# Altium integrated library NSC MiscPower.IntLib: 1417 symbols (part 13 of 39)
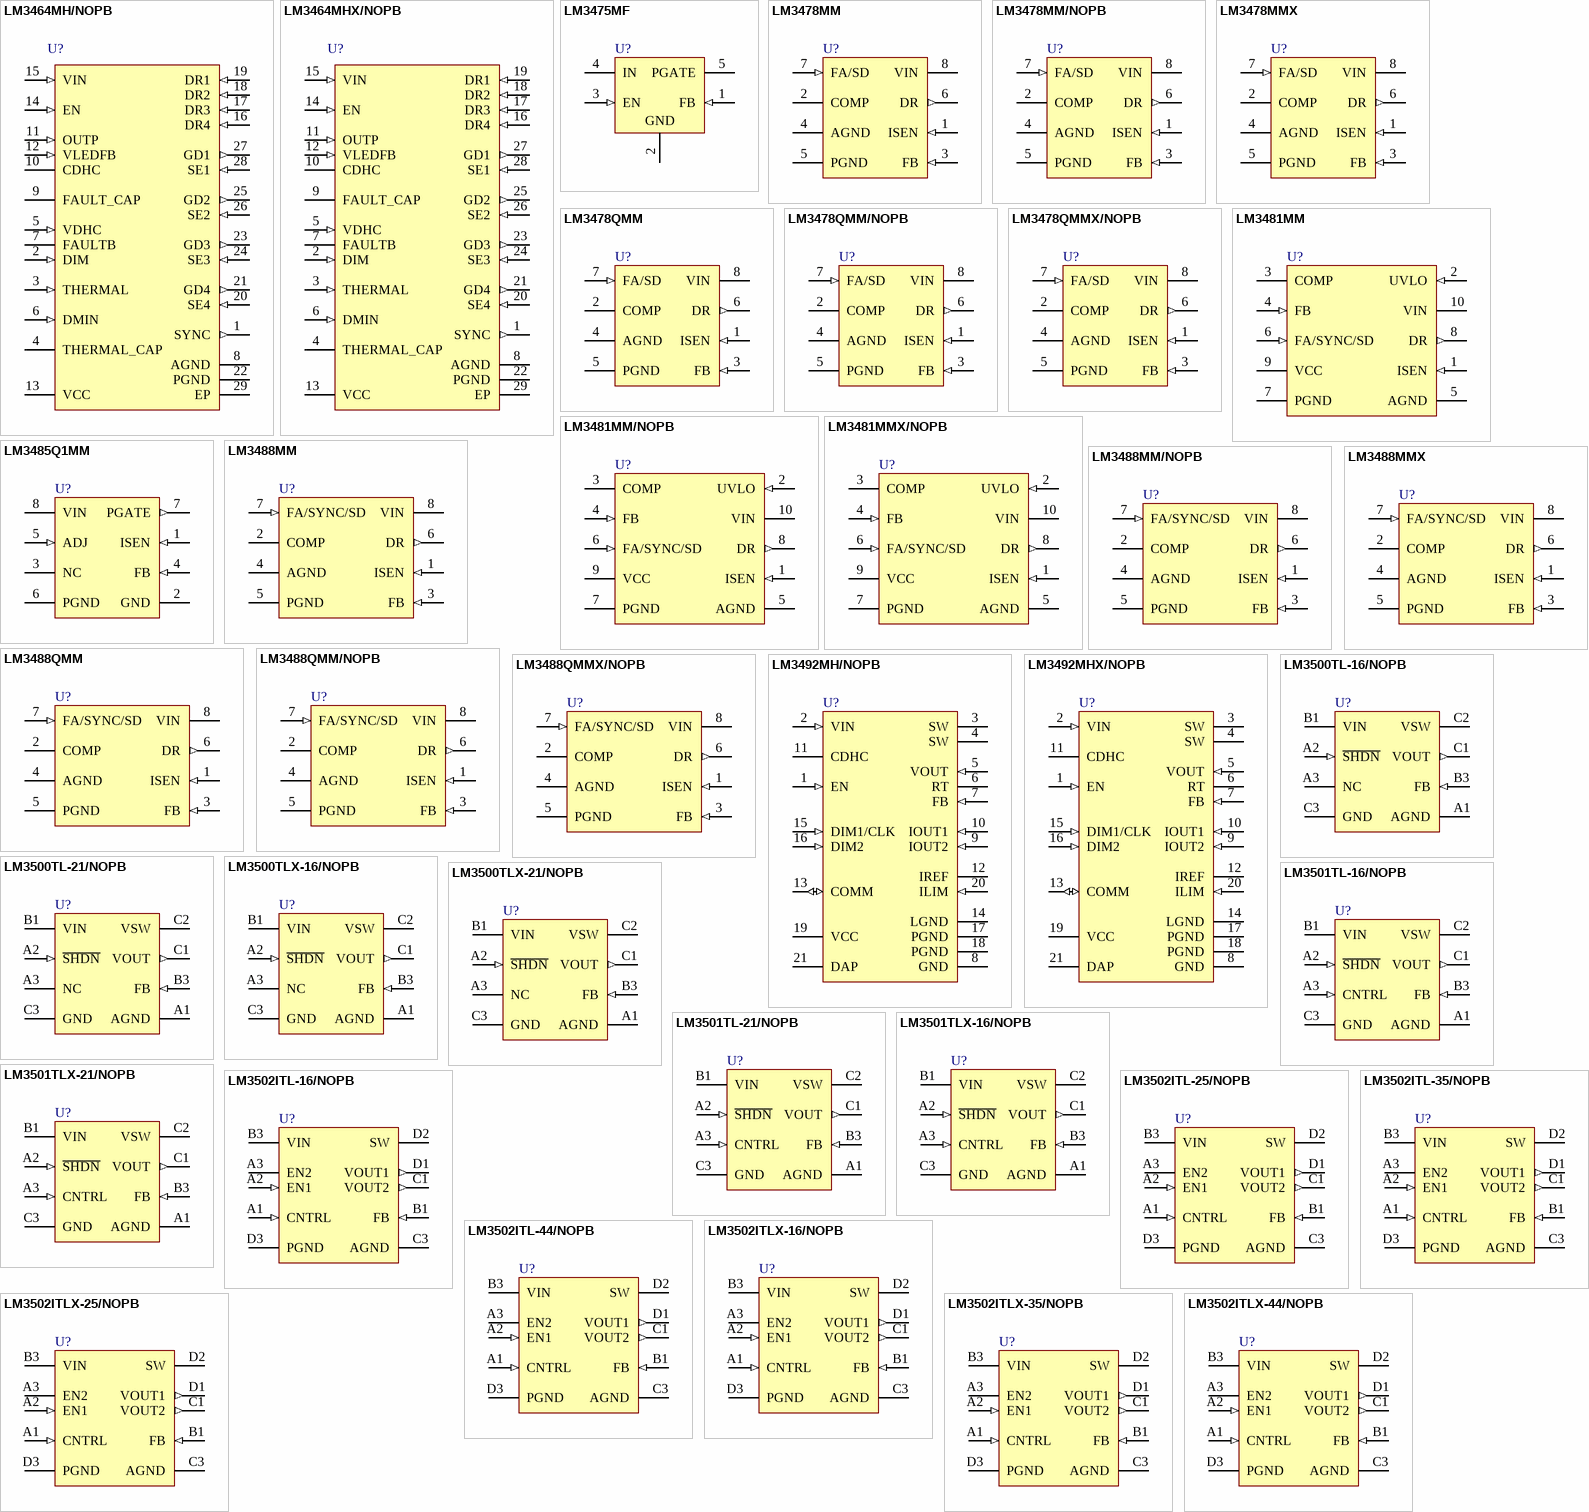
[diagram p63: symbols LM3464MH/NOPB to LM3502ITLX-44/NOPB]

## LM3501TL-16/NOPB
designator U?
Synchronous Step-up DC/DC Converter for White LED Applications, 8-pin Micro SMD, Pb-Free; PartNumber: LM3501TL-16/NOPB; Manufacturer: National Semiconductor; PackageTopMarking: XVS*I 19; PowerWise: N; CompType: MiscPower; Published: 1-Mar-2010; DatasheetVersion: May-2005; PackageVersion: revC, Jan-2004; PackageReference: TLA08SSA; Publisher: Altium Limited; PackageDescription: Thin Micro SMD, 8 Bump (Large), 0.5mm Pitch; Supplier 1: Digi-Key; Supplier Part Number 1: LM3501TL-16TR-ND; Supplier 2: Digi-Key; Supplier Part Number 2: LM3501TL-16CT-ND; Supplier 3: Digi-Key; Supplier Part Number 3: LM3501TL-16DKR-ND; RoHS: Y; PinCount: 8; Code_JEDEC: MO-211-DD; ComponentLink1Description: LM3501 Datasheet; ComponentLink1URL: http://www.national.com/ds/LM/LM3501.pdf; ComponentLink2Description: LM3501 Web Page; ComponentLink2URL: http://www.national.com/pf/LM/LM3501.html; ComponentLink3Description: TLA08SSA Package Page; ComponentLink3URL: http://www.national.com/packaging/folders/tla08ssa.html
footprint TLA08SSA (Micro SMD, 8-Leads, Body 1.92x1.92mm, Pitch 0.5mm, NSC Recommended)
pins: A1 AGND (power), A2 ~{SHDN} (in), A3 CNTRL (in), B1 VIN (power), B3 FB (in), C1 VOUT (out), C2 VSW, C3 GND (power)

## LM3501TL-21/NOPB
designator U?
Synchronous Step-up DC/DC Converter for White LED Applications, 8-pin Micro SMD, Pb-Free; PartNumber: LM3501TL-21/NOPB; Manufacturer: National Semiconductor; PackageTopMarking: XVS*I 30; PowerWise: N; CompType: MiscPower; Published: 1-Mar-2010; DatasheetVersion: May-2005; PackageVersion: revC, Jan-2004; PackageReference: TLA08SSA; Publisher: Altium Limited; PackageDescription: Thin Micro SMD, 8 Bump (Large), 0.5mm Pitch; Supplier 1: Digi-Key; Supplier Part Number 1: LM3501TL-21TR-ND; Supplier 2: Digi-Key; Supplier Part Number 2: LM3501TL-21CT-ND; Supplier 3: Digi-Key; Supplier Part Number 3: LM3501TL-21DKR-ND; RoHS: Y; PinCount: 8; Code_JEDEC: MO-211-DD; ComponentLink1Description: LM3501 Datasheet; ComponentLink1URL: http://www.national.com/ds/LM/LM3501.pdf; ComponentLink2Description: LM3501 Web Page; ComponentLink2URL: http://www.national.com/pf/LM/LM3501.html; ComponentLink3Description: TLA08SSA Package Page; ComponentLink3URL: http://www.national.com/packaging/folders/tla08ssa.html
footprint TLA08SSA (Micro SMD, 8-Leads, Body 1.92x1.92mm, Pitch 0.5mm, NSC Recommended)
pins: A1 AGND (power), A2 ~{SHDN} (in), A3 CNTRL (in), B1 VIN (power), B3 FB (in), C1 VOUT (out), C2 VSW, C3 GND (power)

## LM3501TLX-16/NOPB
designator U?
Synchronous Step-up DC/DC Converter for White LED Applications, 8-pin Micro SMD, Pb-Free; PartNumber: LM3501TLX-16/NOPB; Manufacturer: National Semiconductor; PackageTopMarking: XVS*I 19; PowerWise: N; CompType: MiscPower; Published: 1-Mar-2010; DatasheetVersion: May-2005; PackageVersion: revC, Jan-2004; PackageReference: TLA08SSA; Publisher: Altium Limited; PackageDescription: Thin Micro SMD, 8 Bump (Large), 0.5mm Pitch; Supplier 1: Digi-Key; Supplier Part Number 1: LM3501TLX-16-ND; RoHS: Y; PinCount: 8; Code_JEDEC: MO-211-DD; ComponentLink1Description: LM3501 Datasheet; ComponentLink1URL: http://www.national.com/ds/LM/LM3501.pdf; ComponentLink2Description: LM3501 Web Page; ComponentLink2URL: http://www.national.com/pf/LM/LM3501.html; ComponentLink3Description: TLA08SSA Package Page; ComponentLink3URL: http://www.national.com/packaging/folders/tla08ssa.html
footprint TLA08SSA (Micro SMD, 8-Leads, Body 1.92x1.92mm, Pitch 0.5mm, NSC Recommended)
pins: A1 AGND (power), A2 ~{SHDN} (in), A3 CNTRL (in), B1 VIN (power), B3 FB (in), C1 VOUT (out), C2 VSW, C3 GND (power)

## LM3501TLX-21/NOPB
designator U?
Synchronous Step-up DC/DC Converter for White LED Applications, 8-pin Micro SMD, Pb-Free; PartNumber: LM3501TLX-21/NOPB; Manufacturer: National Semiconductor; PackageTopMarking: XVS*I 30; PowerWise: N; CompType: MiscPower; Published: 1-Mar-2010; DatasheetVersion: May-2005; PackageVersion: revC, Jan-2004; PackageReference: TLA08SSA; Publisher: Altium Limited; PackageDescription: Thin Micro SMD, 8 Bump (Large), 0.5mm Pitch; Supplier 1: Digi-Key; Supplier Part Number 1: LM3501TLX-21-ND; RoHS: Y; PinCount: 8; Code_JEDEC: MO-211-DD; ComponentLink1Description: LM3501 Datasheet; ComponentLink1URL: http://www.national.com/ds/LM/LM3501.pdf; ComponentLink2Description: LM3501 Web Page; ComponentLink2URL: http://www.national.com/pf/LM/LM3501.html; ComponentLink3Description: TLA08SSA Package Page; ComponentLink3URL: http://www.national.com/packaging/folders/tla08ssa.html
footprint TLA08SSA (Micro SMD, 8-Leads, Body 1.92x1.92mm, Pitch 0.5mm, NSC Recommended)
pins: A1 AGND (power), A2 ~{SHDN} (in), A3 CNTRL (in), B1 VIN (power), B3 FB (in), C1 VOUT (out), C2 VSW, C3 GND (power)

## LM3502ITL-16/NOPB
designator U?
Step-Up Converter for White LED Applications, 10-pin Micro SMD, Pb-Free; PartNumber: LM3502ITL-16/NOPB; Manufacturer: National Semiconductor; PackageTopMarking: XYTT*I SANB; PowerWise: Y; CompType: MiscPower; Published: 1-Mar-2010; DatasheetVersion: Aug-2006; PackageVersion: revD, Mar-2004; PackageReference: TLP10RDA; Publisher: Altium Limited; PackageDescription: Thin Micro SMD, 10 Bump (Large), Periperal, 0.5mm Pitch; Supplier 1: Digi-Key; Supplier Part Number 1: LM3502ITL-16TR-ND; Supplier 2: Digi-Key; Supplier Part Number 2: LM3502ITL-16CT-ND; Supplier 3: Digi-Key; Supplier Part Number 3: LM3502ITL-16DKR-ND; RoHS: Y; PinCount: 10; Code_JEDEC: MO-211-BD; ComponentLink1Description: LM3502 Datasheet; ComponentLink1URL: http://www.national.com/ds/LM/LM3502.pdf; ComponentLink2Description: LM3502 Web Page; ComponentLink2URL: http://www.national.com/pf/LM/LM3502.html; ComponentLink3Description: TLP10RDA Package Page; ComponentLink3URL: http://www.national.com/packaging/folders/tlp10rda.html
footprint TLP10RDA (Micro SMD, 10-Leads, Body 2.07x1.9mm, Pitch 0.5mm, NSC Recommended)
pins: A1 CNTRL (in), A2 EN1 (in), A3 EN2, B1 FB (in), B3 VIN (power), C1 VOUT2 (out), C3 AGND (power), D1 VOUT1 (out), D2 SW (power), D3 PGND (power)

## LM3502ITL-25/NOPB
designator U?
Step-Up Converter for White LED Applications, 10-pin Micro SMD, Pb-Free; PartNumber: LM3502ITL-25/NOPB; Manufacturer: National Semiconductor; PackageTopMarking: XYTT*I SAPB; PowerWise: Y; CompType: MiscPower; Published: 1-Mar-2010; DatasheetVersion: Aug-2006; PackageVersion: revD, Mar-2004; PackageReference: TLP10RDA; Publisher: Altium Limited; PackageDescription: Thin Micro SMD, 10 Bump (Large), Periperal, 0.5mm Pitch; Supplier 1: Digi-Key; Supplier Part Number 1: LM3502ITL-25TR-ND; Supplier 2: Digi-Key; Supplier Part Number 2: LM3502ITL-25CT-ND; Supplier 3: Digi-Key; Supplier Part Number 3: LM3502ITL-25DKR-ND; RoHS: Y; PinCount: 10; Code_JEDEC: MO-211-BD; ComponentLink1Description: LM3502 Datasheet; ComponentLink1URL: http://www.national.com/ds/LM/LM3502.pdf; ComponentLink2Description: LM3502 Web Page; ComponentLink2URL: http://www.national.com/pf/LM/LM3502.html; ComponentLink3Description: TLP10RDA Package Page; ComponentLink3URL: http://www.national.com/packaging/folders/tlp10rda.html
footprint TLP10RDA (Micro SMD, 10-Leads, Body 2.07x1.9mm, Pitch 0.5mm, NSC Recommended)
pins: A1 CNTRL (in), A2 EN1 (in), A3 EN2, B1 FB (in), B3 VIN (power), C1 VOUT2 (out), C3 AGND (power), D1 VOUT1 (out), D2 SW (power), D3 PGND (power)

## LM3502ITL-35/NOPB
designator U?
Step-Up Converter for White LED Applications, 10-pin Micro SMD, Pb-Free; PartNumber: LM3502ITL-35/NOPB; Manufacturer: National Semiconductor; PackageTopMarking: XYTT*I SARB; PowerWise: Y; CompType: MiscPower; Published: 1-Mar-2010; DatasheetVersion: Aug-2006; PackageVersion: revD, Mar-2004; PackageReference: TLP10RDA; Publisher: Altium Limited; PackageDescription: Thin Micro SMD, 10 Bump (Large), Periperal, 0.5mm Pitch; Supplier 1: Digi-Key; Supplier Part Number 1: LM3502ITL-35-ND; RoHS: Y; PinCount: 10; Code_JEDEC: MO-211-BD; ComponentLink1Description: LM3502 Datasheet; ComponentLink1URL: http://www.national.com/ds/LM/LM3502.pdf; ComponentLink2Description: LM3502 Web Page; ComponentLink2URL: http://www.national.com/pf/LM/LM3502.html; ComponentLink3Description: TLP10RDA Package Page; ComponentLink3URL: http://www.national.com/packaging/folders/tlp10rda.html
footprint TLP10RDA (Micro SMD, 10-Leads, Body 2.07x1.9mm, Pitch 0.5mm, NSC Recommended)
pins: A1 CNTRL (in), A2 EN1 (in), A3 EN2, B1 FB (in), B3 VIN (power), C1 VOUT2 (out), C3 AGND (power), D1 VOUT1 (out), D2 SW (power), D3 PGND (power)

## LM3502ITL-44/NOPB
designator U?
Step-Up Converter for White LED Applications, 10-pin Micro SMD, Pb-Free; PartNumber: LM3502ITL-44/NOPB; Manufacturer: National Semiconductor; PackageTopMarking: XYTT*I SDLB; PowerWise: Y; CompType: MiscPower; Published: 1-Mar-2010; DatasheetVersion: Aug-2006; PackageVersion: revD, Mar-2004; PackageReference: TLP10RDA; Publisher: Altium Limited; PackageDescription: Thin Micro SMD, 10 Bump (Large), Periperal, 0.5mm Pitch; Supplier 1: Digi-Key; Supplier Part Number 1: LM3502ITL-44TR-ND; Supplier 2: Digi-Key; Supplier Part Number 2: LM3502ITL-44CT-ND; Supplier 3: Digi-Key; Supplier Part Number 3: LM3502ITL-44DKR-ND; RoHS: Y; PinCount: 10; Code_JEDEC: MO-211-BD; ComponentLink1Description: LM3502 Datasheet; ComponentLink1URL: http://www.national.com/ds/LM/LM3502.pdf; ComponentLink2Description: LM3502 Web Page; ComponentLink2URL: http://www.national.com/pf/LM/LM3502.html; ComponentLink3Description: TLP10RDA Package Page; ComponentLink3URL: http://www.national.com/packaging/folders/tlp10rda.html
footprint TLP10RDA (Micro SMD, 10-Leads, Body 2.07x1.9mm, Pitch 0.5mm, NSC Recommended)
pins: A1 CNTRL (in), A2 EN1 (in), A3 EN2, B1 FB (in), B3 VIN (power), C1 VOUT2 (out), C3 AGND (power), D1 VOUT1 (out), D2 SW (power), D3 PGND (power)

## LM3502ITLX-16/NOPB
designator U?
Step-Up Converter for White LED Applications, 10-pin Micro SMD, Pb-Free; PartNumber: LM3502ITLX-16/NOPB; Manufacturer: National Semiconductor; PackageTopMarking: XYTT*I SANB; PowerWise: Y; CompType: MiscPower; Published: 1-Mar-2010; DatasheetVersion: Aug-2006; PackageVersion: revD, Mar-2004; PackageReference: TLP10RDA; Publisher: Altium Limited; PackageDescription: Thin Micro SMD, 10 Bump (Large), Periperal, 0.5mm Pitch; Supplier 1: Digi-Key; Supplier Part Number 1: LM3502ITLX-16-ND; RoHS: Y; PinCount: 10; Code_JEDEC: MO-211-BD; ComponentLink1Description: LM3502 Datasheet; ComponentLink1URL: http://www.national.com/ds/LM/LM3502.pdf; ComponentLink2Description: LM3502 Web Page; ComponentLink2URL: http://www.national.com/pf/LM/LM3502.html; ComponentLink3Description: TLP10RDA Package Page; ComponentLink3URL: http://www.national.com/packaging/folders/tlp10rda.html
footprint TLP10RDA (Micro SMD, 10-Leads, Body 2.07x1.9mm, Pitch 0.5mm, NSC Recommended)
pins: A1 CNTRL (in), A2 EN1 (in), A3 EN2, B1 FB (in), B3 VIN (power), C1 VOUT2 (out), C3 AGND (power), D1 VOUT1 (out), D2 SW (power), D3 PGND (power)

## LM3502ITLX-25/NOPB
designator U?
Step-Up Converter for White LED Applications, 10-pin Micro SMD, Pb-Free; PartNumber: LM3502ITLX-25/NOPB; Manufacturer: National Semiconductor; PackageTopMarking: XYTT*I SAPB; PowerWise: Y; CompType: MiscPower; Published: 1-Mar-2010; DatasheetVersion: Aug-2006; PackageVersion: revD, Mar-2004; PackageReference: TLP10RDA; Publisher: Altium Limited; PackageDescription: Thin Micro SMD, 10 Bump (Large), Periperal, 0.5mm Pitch; Supplier 1: Digi-Key; Supplier Part Number 1: LM3502ITLX-25-ND; RoHS: Y; PinCount: 10; Code_JEDEC: MO-211-BD; ComponentLink1Description: LM3502 Datasheet; ComponentLink1URL: http://www.national.com/ds/LM/LM3502.pdf; ComponentLink2Description: LM3502 Web Page; ComponentLink2URL: http://www.national.com/pf/LM/LM3502.html; ComponentLink3Description: TLP10RDA Package Page; ComponentLink3URL: http://www.national.com/packaging/folders/tlp10rda.html
footprint TLP10RDA (Micro SMD, 10-Leads, Body 2.07x1.9mm, Pitch 0.5mm, NSC Recommended)
pins: A1 CNTRL (in), A2 EN1 (in), A3 EN2, B1 FB (in), B3 VIN (power), C1 VOUT2 (out), C3 AGND (power), D1 VOUT1 (out), D2 SW (power), D3 PGND (power)

## LM3502ITLX-35/NOPB
designator U?
Step-Up Converter for White LED Applications, 10-pin Micro SMD, Pb-Free; PartNumber: LM3502ITLX-35/NOPB; Manufacturer: National Semiconductor; PackageTopMarking: XYTT*I SARB; PowerWise: Y; CompType: MiscPower; Published: 1-Mar-2010; DatasheetVersion: Aug-2006; PackageVersion: revD, Mar-2004; PackageReference: TLP10RDA; Publisher: Altium Limited; PackageDescription: Thin Micro SMD, 10 Bump (Large), Periperal, 0.5mm Pitch; Supplier 1: Digi-Key; Supplier Part Number 1: LM3502ITLX-35-ND; RoHS: Y; PinCount: 10; Code_JEDEC: MO-211-BD; ComponentLink1Description: LM3502 Datasheet; ComponentLink1URL: http://www.national.com/ds/LM/LM3502.pdf; ComponentLink2Description: LM3502 Web Page; ComponentLink2URL: http://www.national.com/pf/LM/LM3502.html; ComponentLink3Description: TLP10RDA Package Page; ComponentLink3URL: http://www.national.com/packaging/folders/tlp10rda.html
footprint TLP10RDA (Micro SMD, 10-Leads, Body 2.07x1.9mm, Pitch 0.5mm, NSC Recommended)
pins: A1 CNTRL (in), A2 EN1 (in), A3 EN2, B1 FB (in), B3 VIN (power), C1 VOUT2 (out), C3 AGND (power), D1 VOUT1 (out), D2 SW (power), D3 PGND (power)

## LM3502ITLX-44/NOPB
designator U?
Step-Up Converter for White LED Applications, 10-pin Micro SMD, Pb-Free; PartNumber: LM3502ITLX-44/NOPB; Manufacturer: National Semiconductor; PackageTopMarking: XYTT*I SDLB; PowerWise: Y; CompType: MiscPower; Published: 1-Mar-2010; DatasheetVersion: Aug-2006; PackageVersion: revD, Mar-2004; PackageReference: TLP10RDA; Publisher: Altium Limited; PackageDescription: Thin Micro SMD, 10 Bump (Large), Periperal, 0.5mm Pitch; Supplier 1: Digi-Key; Supplier Part Number 1: LM3502ITLX-44-ND; RoHS: Y; PinCount: 10; Code_JEDEC: MO-211-BD; ComponentLink1Description: LM3502 Datasheet; ComponentLink1URL: http://www.national.com/ds/LM/LM3502.pdf; ComponentLink2Description: LM3502 Web Page; ComponentLink2URL: http://www.national.com/pf/LM/LM3502.html; ComponentLink3Description: TLP10RDA Package Page; ComponentLink3URL: http://www.national.com/packaging/folders/tlp10rda.html
footprint TLP10RDA (Micro SMD, 10-Leads, Body 2.07x1.9mm, Pitch 0.5mm, NSC Recommended)
pins: A1 CNTRL (in), A2 EN1 (in), A3 EN2, B1 FB (in), B3 VIN (power), C1 VOUT2 (out), C3 AGND (power), D1 VOUT1 (out), D2 SW (power), D3 PGND (power)

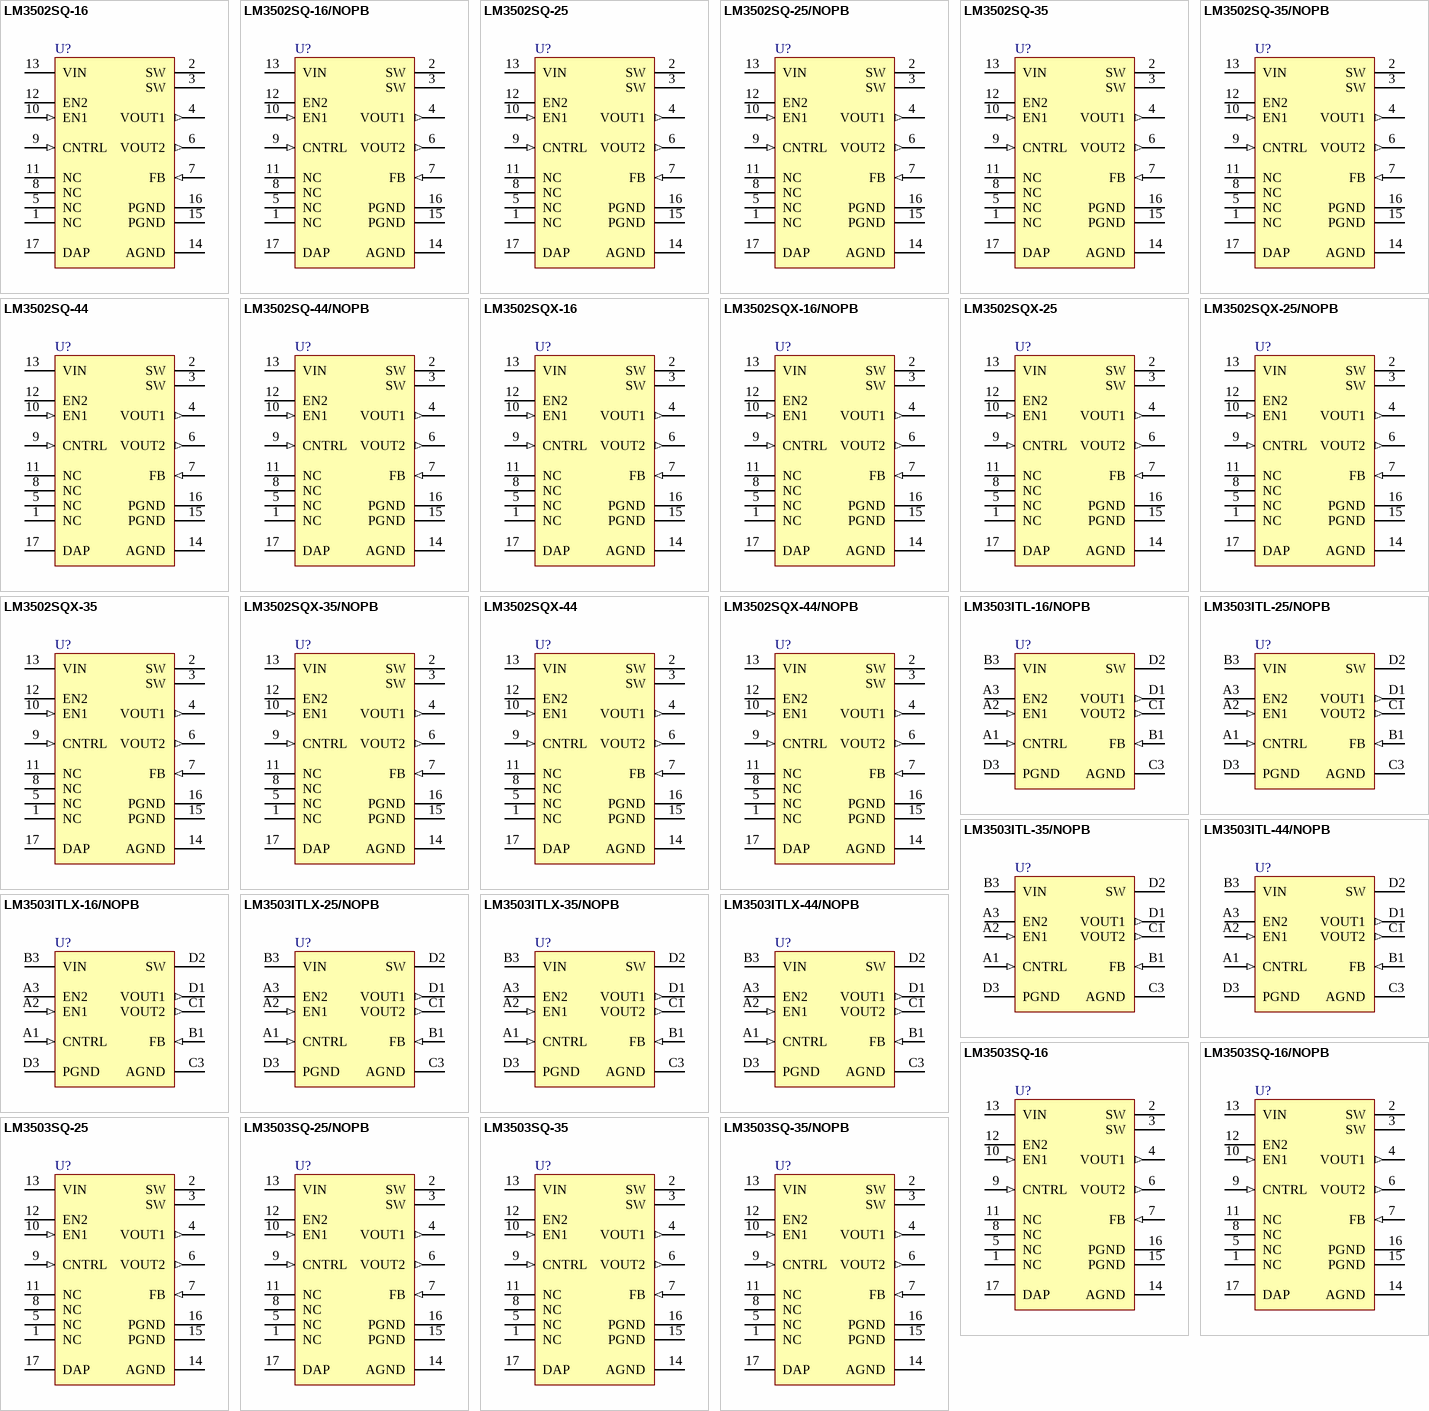
[diagram p14: symbols LM3502SQ-16 to LM3503SQ-35/NOPB]

## LM3502SQ-16
designator U?
Step-Up Converter for White LED Applications, 16-pin LLP; PartNumber: LM3502SQ-16; Manufacturer: National Semiconductor; PackageTopMarking: NS*UZXYTT*L00048B; PowerWise: Y; CompType: MiscPower; Published: 4-Dec-2008; DatasheetVersion: Aug-2006; PackageVersion: revA, Oct-2003; PackageReference: SQA16A; Publisher: Altium Limited; PackageDescription: LLP, Plastic, Quad, 4 x 4 x 0.8mm Body, 16 Lead, 0.5mm Pitch, No Pullback; Supplier 1: Farnell; Supplier Part Number 1: 1312572; RoHS: N; PinCount: 16; ComponentLink1Description: LM3502 Datasheet; ComponentLink1URL: http://www.national.com/ds/LM/LM3502.pdf; ComponentLink2Description: LM3502 Web Page; ComponentLink2URL: http://www.national.com/pf/LM/LM3502.html; ComponentLink3Description: SQA16A Package Page; ComponentLink3URL: http://www.national.com/packaging/folders/sqa16a.html
footprint SQA16A (QFN, 16-Leads, Body 4x4mm, Pitch 0.5mm, NSC Recommended)
pins: 1 NC, 2 SW (power), 3 SW (power), 4 VOUT1 (out), 5 NC, 6 VOUT2 (out), 7 FB (in), 8 NC, 9 CNTRL (in), 10 EN1 (in), 11 NC, 12 EN2, 13 VIN (power), 14 AGND (power), 15 PGND (power), 16 PGND (power), 17 DAP (power)

## LM3502SQ-16/NOPB
designator U?
Step-Up Converter for White LED Applications, 16-pin LLP, Pb-Free; PartNumber: LM3502SQ-16/NOPB; Manufacturer: National Semiconductor; PackageTopMarking: NS*UZXYTT*L00048B; PowerWise: Y; CompType: MiscPower; Published: 1-Mar-2010; DatasheetVersion: Aug-2006; PackageVersion: revA, Oct-2003; PackageReference: SQA16A; Publisher: Altium Limited; PackageDescription: LLP, Plastic, Quad, 4 x 4 x 0.8mm Body, 16 Lead, 0.5mm Pitch, No Pullback; Supplier 1: Digi-Key; Supplier Part Number 1: LM3502SQ-16TR-ND; Supplier 2: Digi-Key; Supplier Part Number 2: LM3502SQ-16CT-ND; Supplier 3: Digi-Key; Supplier Part Number 3: LM3502SQ-16DKR-ND; RoHS: Y; PinCount: 16; ComponentLink1Description: LM3502 Datasheet; ComponentLink1URL: http://www.national.com/ds/LM/LM3502.pdf; ComponentLink2Description: LM3502 Web Page; ComponentLink2URL: http://www.national.com/pf/LM/LM3502.html; ComponentLink3Description: SQA16A Package Page; ComponentLink3URL: http://www.national.com/packaging/folders/sqa16a.html
footprint SQA16A (QFN, 16-Leads, Body 4x4mm, Pitch 0.5mm, NSC Recommended)
pins: 1 NC, 2 SW (power), 3 SW (power), 4 VOUT1 (out), 5 NC, 6 VOUT2 (out), 7 FB (in), 8 NC, 9 CNTRL (in), 10 EN1 (in), 11 NC, 12 EN2, 13 VIN (power), 14 AGND (power), 15 PGND (power), 16 PGND (power), 17 DAP (power)

## LM3502SQ-25
designator U?
Step-Up Converter for White LED Applications, 16-pin LLP; PartNumber: LM3502SQ-25; Manufacturer: National Semiconductor; PackageTopMarking: NS*UZXYTT*L00049B; PowerWise: Y; CompType: MiscPower; Published: 4-Dec-2008; DatasheetVersion: Aug-2006; PackageVersion: revA, Oct-2003; PackageReference: SQA16A; Publisher: Altium Limited; PackageDescription: LLP, Plastic, Quad, 4 x 4 x 0.8mm Body, 16 Lead, 0.5mm Pitch, No Pullback; Supplier 1: Digi-Key; Supplier Part Number 1: LM3502SQ-25TR-ND; Supplier 2: Digi-Key; Supplier Part Number 2: LM3502SQ-25CT-ND; Supplier 3: Digi-Key; Supplier Part Number 3: LM3502SQ-25DKR-ND; Supplier 4: Farnell; Supplier Part Number 4: 1312573; RoHS: N; PinCount: 16; ComponentLink1Description: LM3502 Datasheet; ComponentLink1URL: http://www.national.com/ds/LM/LM3502.pdf; ComponentLink2Description: LM3502 Web Page; ComponentLink2URL: http://www.national.com/pf/LM/LM3502.html; ComponentLink3Description: SQA16A Package Page; ComponentLink3URL: http://www.national.com/packaging/folders/sqa16a.html
footprint SQA16A (QFN, 16-Leads, Body 4x4mm, Pitch 0.5mm, NSC Recommended)
pins: 1 NC, 2 SW (power), 3 SW (power), 4 VOUT1 (out), 5 NC, 6 VOUT2 (out), 7 FB (in), 8 NC, 9 CNTRL (in), 10 EN1 (in), 11 NC, 12 EN2, 13 VIN (power), 14 AGND (power), 15 PGND (power), 16 PGND (power), 17 DAP (power)

## LM3502SQ-25/NOPB
designator U?
Step-Up Converter for White LED Applications, 16-pin LLP, Pb-Free; PartNumber: LM3502SQ-25/NOPB; Manufacturer: National Semiconductor; PackageTopMarking: NS*UZXYTT*L00049B; PowerWise: Y; CompType: MiscPower; Published: 1-Mar-2010; DatasheetVersion: Aug-2006; PackageVersion: revA, Oct-2003; PackageReference: SQA16A; Publisher: Altium Limited; PackageDescription: LLP, Plastic, Quad, 4 x 4 x 0.8mm Body, 16 Lead, 0.5mm Pitch, No Pullback; RoHS: Y; PinCount: 16; ComponentLink1Description: LM3502 Datasheet; ComponentLink1URL: http://www.national.com/ds/LM/LM3502.pdf; ComponentLink2Description: LM3502 Web Page; ComponentLink2URL: http://www.national.com/pf/LM/LM3502.html; ComponentLink3Description: SQA16A Package Page; ComponentLink3URL: http://www.national.com/packaging/folders/sqa16a.html
footprint SQA16A (QFN, 16-Leads, Body 4x4mm, Pitch 0.5mm, NSC Recommended)
pins: 1 NC, 2 SW (power), 3 SW (power), 4 VOUT1 (out), 5 NC, 6 VOUT2 (out), 7 FB (in), 8 NC, 9 CNTRL (in), 10 EN1 (in), 11 NC, 12 EN2, 13 VIN (power), 14 AGND (power), 15 PGND (power), 16 PGND (power), 17 DAP (power)

## LM3502SQ-35
designator U?
Step-Up Converter for White LED Applications, 16-pin LLP; PartNumber: LM3502SQ-35; Manufacturer: National Semiconductor; PackageTopMarking: NS*UZXYTT*L00044B; PowerWise: Y; CompType: MiscPower; Published: 4-Dec-2008; DatasheetVersion: Aug-2006; PackageVersion: revA, Oct-2003; PackageReference: SQA16A; Publisher: Altium Limited; PackageDescription: LLP, Plastic, Quad, 4 x 4 x 0.8mm Body, 16 Lead, 0.5mm Pitch, No Pullback; Supplier 1: Farnell; Supplier Part Number 1: 1312574; RoHS: N; PinCount: 16; ComponentLink1Description: LM3502 Datasheet; ComponentLink1URL: http://www.national.com/ds/LM/LM3502.pdf; ComponentLink2Description: LM3502 Web Page; ComponentLink2URL: http://www.national.com/pf/LM/LM3502.html; ComponentLink3Description: SQA16A Package Page; ComponentLink3URL: http://www.national.com/packaging/folders/sqa16a.html
footprint SQA16A (QFN, 16-Leads, Body 4x4mm, Pitch 0.5mm, NSC Recommended)
pins: 1 NC, 2 SW (power), 3 SW (power), 4 VOUT1 (out), 5 NC, 6 VOUT2 (out), 7 FB (in), 8 NC, 9 CNTRL (in), 10 EN1 (in), 11 NC, 12 EN2, 13 VIN (power), 14 AGND (power), 15 PGND (power), 16 PGND (power), 17 DAP (power)

## LM3502SQ-35/NOPB
designator U?
Step-Up Converter for White LED Applications, 16-pin LLP, Pb-Free; PartNumber: LM3502SQ-35/NOPB; Manufacturer: National Semiconductor; PackageTopMarking: NS*UZXYTT*L00044B; PowerWise: Y; CompType: MiscPower; Published: 1-Mar-2010; DatasheetVersion: Aug-2006; PackageVersion: revA, Oct-2003; PackageReference: SQA16A; Publisher: Altium Limited; PackageDescription: LLP, Plastic, Quad, 4 x 4 x 0.8mm Body, 16 Lead, 0.5mm Pitch, No Pullback; Supplier 1: Digi-Key; Supplier Part Number 1: LM3502SQ-35TR-ND; Supplier 2: Digi-Key; Supplier Part Number 2: LM3502SQ-35CT-ND; Supplier 3: Digi-Key; Supplier Part Number 3: LM3502SQ-35DKR-ND; RoHS: Y; PinCount: 16; ComponentLink1Description: LM3502 Datasheet; ComponentLink1URL: http://www.national.com/ds/LM/LM3502.pdf; ComponentLink2Description: LM3502 Web Page; ComponentLink2URL: http://www.national.com/pf/LM/LM3502.html; ComponentLink3Description: SQA16A Package Page; ComponentLink3URL: http://www.national.com/packaging/folders/sqa16a.html
footprint SQA16A (QFN, 16-Leads, Body 4x4mm, Pitch 0.5mm, NSC Recommended)
pins: 1 NC, 2 SW (power), 3 SW (power), 4 VOUT1 (out), 5 NC, 6 VOUT2 (out), 7 FB (in), 8 NC, 9 CNTRL (in), 10 EN1 (in), 11 NC, 12 EN2, 13 VIN (power), 14 AGND (power), 15 PGND (power), 16 PGND (power), 17 DAP (power)

## LM3502SQ-44
designator U?
Step-Up Converter for White LED Applications, 16-pin LLP; PartNumber: LM3502SQ-44; Manufacturer: National Semiconductor; PackageTopMarking: NS*UZXYTT*L00050B; PowerWise: Y; CompType: MiscPower; Published: 4-Dec-2008; DatasheetVersion: Aug-2006; PackageVersion: revA, Oct-2003; PackageReference: SQA16A; Publisher: Altium Limited; PackageDescription: LLP, Plastic, Quad, 4 x 4 x 0.8mm Body, 16 Lead, 0.5mm Pitch, No Pullback; Supplier 1: Farnell; Supplier Part Number 1: 1312575; RoHS: N; PinCount: 16; ComponentLink1Description: LM3502 Datasheet; ComponentLink1URL: http://www.national.com/ds/LM/LM3502.pdf; ComponentLink2Description: LM3502 Web Page; ComponentLink2URL: http://www.national.com/pf/LM/LM3502.html; ComponentLink3Description: SQA16A Package Page; ComponentLink3URL: http://www.national.com/packaging/folders/sqa16a.html
footprint SQA16A (QFN, 16-Leads, Body 4x4mm, Pitch 0.5mm, NSC Recommended)
pins: 1 NC, 2 SW (power), 3 SW (power), 4 VOUT1 (out), 5 NC, 6 VOUT2 (out), 7 FB (in), 8 NC, 9 CNTRL (in), 10 EN1 (in), 11 NC, 12 EN2, 13 VIN (power), 14 AGND (power), 15 PGND (power), 16 PGND (power), 17 DAP (power)

## LM3502SQ-44/NOPB
designator U?
Step-Up Converter for White LED Applications, 16-pin LLP, Pb-Free; PartNumber: LM3502SQ-44/NOPB; Manufacturer: National Semiconductor; PackageTopMarking: NS*UZXYTT*L00050B; PowerWise: Y; CompType: MiscPower; Published: 1-Mar-2010; DatasheetVersion: Aug-2006; PackageVersion: revA, Oct-2003; PackageReference: SQA16A; Publisher: Altium Limited; PackageDescription: LLP, Plastic, Quad, 4 x 4 x 0.8mm Body, 16 Lead, 0.5mm Pitch, No Pullback; Supplier 1: Digi-Key; Supplier Part Number 1: LM3502SQ-44TR-ND; Supplier 2: Digi-Key; Supplier Part Number 2: LM3502SQ-44CT-ND; Supplier 3: Digi-Key; Supplier Part Number 3: LM3502SQ-44DKR-ND; RoHS: Y; PinCount: 16; ComponentLink1Description: LM3502 Datasheet; ComponentLink1URL: http://www.national.com/ds/LM/LM3502.pdf; ComponentLink2Description: LM3502 Web Page; ComponentLink2URL: http://www.national.com/pf/LM/LM3502.html; ComponentLink3Description: SQA16A Package Page; ComponentLink3URL: http://www.national.com/packaging/folders/sqa16a.html
footprint SQA16A (QFN, 16-Leads, Body 4x4mm, Pitch 0.5mm, NSC Recommended)
pins: 1 NC, 2 SW (power), 3 SW (power), 4 VOUT1 (out), 5 NC, 6 VOUT2 (out), 7 FB (in), 8 NC, 9 CNTRL (in), 10 EN1 (in), 11 NC, 12 EN2, 13 VIN (power), 14 AGND (power), 15 PGND (power), 16 PGND (power), 17 DAP (power)

## LM3502SQX-16
designator U?
Step-Up Converter for White LED Applications, 16-pin LLP; PartNumber: LM3502SQX-16; Manufacturer: National Semiconductor; PackageTopMarking: NS*UZXYTT*L00048B; PowerWise: Y; CompType: MiscPower; Published: 1-Mar-2010; DatasheetVersion: Aug-2006; PackageVersion: revA, Oct-2003; PackageReference: SQA16A; Publisher: Altium Limited; PackageDescription: LLP, Plastic, Quad, 4 x 4 x 0.8mm Body, 16 Lead, 0.5mm Pitch, No Pullback; RoHS: N; PinCount: 16; ComponentLink1Description: LM3502 Datasheet; ComponentLink1URL: http://www.national.com/ds/LM/LM3502.pdf; ComponentLink2Description: LM3502 Web Page; ComponentLink2URL: http://www.national.com/pf/LM/LM3502.html; ComponentLink3Description: SQA16A Package Page; ComponentLink3URL: http://www.national.com/packaging/folders/sqa16a.html
footprint SQA16A (QFN, 16-Leads, Body 4x4mm, Pitch 0.5mm, NSC Recommended)
pins: 1 NC, 2 SW (power), 3 SW (power), 4 VOUT1 (out), 5 NC, 6 VOUT2 (out), 7 FB (in), 8 NC, 9 CNTRL (in), 10 EN1 (in), 11 NC, 12 EN2, 13 VIN (power), 14 AGND (power), 15 PGND (power), 16 PGND (power), 17 DAP (power)

## LM3502SQX-16/NOPB
designator U?
Step-Up Converter for White LED Applications, 16-pin LLP, Pb-Free; PartNumber: LM3502SQX-16/NOPB; Manufacturer: National Semiconductor; PackageTopMarking: NS*UZXYTT*L00048B; PowerWise: Y; CompType: MiscPower; Published: 1-Mar-2010; DatasheetVersion: Aug-2006; PackageVersion: revA, Oct-2003; PackageReference: SQA16A; Publisher: Altium Limited; PackageDescription: LLP, Plastic, Quad, 4 x 4 x 0.8mm Body, 16 Lead, 0.5mm Pitch, No Pullback; Supplier 1: Digi-Key; Supplier Part Number 1: LM3502SQX-16-ND; RoHS: Y; PinCount: 16; ComponentLink1Description: LM3502 Datasheet; ComponentLink1URL: http://www.national.com/ds/LM/LM3502.pdf; ComponentLink2Description: LM3502 Web Page; ComponentLink2URL: http://www.national.com/pf/LM/LM3502.html; ComponentLink3Description: SQA16A Package Page; ComponentLink3URL: http://www.national.com/packaging/folders/sqa16a.html
footprint SQA16A (QFN, 16-Leads, Body 4x4mm, Pitch 0.5mm, NSC Recommended)
pins: 1 NC, 2 SW (power), 3 SW (power), 4 VOUT1 (out), 5 NC, 6 VOUT2 (out), 7 FB (in), 8 NC, 9 CNTRL (in), 10 EN1 (in), 11 NC, 12 EN2, 13 VIN (power), 14 AGND (power), 15 PGND (power), 16 PGND (power), 17 DAP (power)

## LM3502SQX-25
designator U?
Step-Up Converter for White LED Applications, 16-pin LLP; PartNumber: LM3502SQX-25; Manufacturer: National Semiconductor; PackageTopMarking: NS*UZXYTT*L00049B; PowerWise: Y; CompType: MiscPower; Published: 1-Mar-2010; DatasheetVersion: Aug-2006; PackageVersion: revA, Oct-2003; PackageReference: SQA16A; Publisher: Altium Limited; PackageDescription: LLP, Plastic, Quad, 4 x 4 x 0.8mm Body, 16 Lead, 0.5mm Pitch, No Pullback; RoHS: N; PinCount: 16; ComponentLink1Description: LM3502 Datasheet; ComponentLink1URL: http://www.national.com/ds/LM/LM3502.pdf; ComponentLink2Description: LM3502 Web Page; ComponentLink2URL: http://www.national.com/pf/LM/LM3502.html; ComponentLink3Description: SQA16A Package Page; ComponentLink3URL: http://www.national.com/packaging/folders/sqa16a.html
footprint SQA16A (QFN, 16-Leads, Body 4x4mm, Pitch 0.5mm, NSC Recommended)
pins: 1 NC, 2 SW (power), 3 SW (power), 4 VOUT1 (out), 5 NC, 6 VOUT2 (out), 7 FB (in), 8 NC, 9 CNTRL (in), 10 EN1 (in), 11 NC, 12 EN2, 13 VIN (power), 14 AGND (power), 15 PGND (power), 16 PGND (power), 17 DAP (power)

## LM3502SQX-25/NOPB
designator U?
Step-Up Converter for White LED Applications, 16-pin LLP, Pb-Free; PartNumber: LM3502SQX-25/NOPB; Manufacturer: National Semiconductor; PackageTopMarking: NS*UZXYTT*L00049B; PowerWise: Y; CompType: MiscPower; Published: 1-Mar-2010; DatasheetVersion: Aug-2006; PackageVersion: revA, Oct-2003; PackageReference: SQA16A; Publisher: Altium Limited; PackageDescription: LLP, Plastic, Quad, 4 x 4 x 0.8mm Body, 16 Lead, 0.5mm Pitch, No Pullback; Supplier 1: Digi-Key; Supplier Part Number 1: LM3502SQX-25-ND; RoHS: Y; PinCount: 16; ComponentLink1Description: LM3502 Datasheet; ComponentLink1URL: http://www.national.com/ds/LM/LM3502.pdf; ComponentLink2Description: LM3502 Web Page; ComponentLink2URL: http://www.national.com/pf/LM/LM3502.html; ComponentLink3Description: SQA16A Package Page; ComponentLink3URL: http://www.national.com/packaging/folders/sqa16a.html
footprint SQA16A (QFN, 16-Leads, Body 4x4mm, Pitch 0.5mm, NSC Recommended)
pins: 1 NC, 2 SW (power), 3 SW (power), 4 VOUT1 (out), 5 NC, 6 VOUT2 (out), 7 FB (in), 8 NC, 9 CNTRL (in), 10 EN1 (in), 11 NC, 12 EN2, 13 VIN (power), 14 AGND (power), 15 PGND (power), 16 PGND (power), 17 DAP (power)

## LM3502SQX-35
designator U?
Step-Up Converter for White LED Applications, 16-pin LLP; PartNumber: LM3502SQX-35; Manufacturer: National Semiconductor; PackageTopMarking: NS*UZXYTT*L00044B; PowerWise: Y; CompType: MiscPower; Published: 1-Mar-2010; DatasheetVersion: Aug-2006; PackageVersion: revA, Oct-2003; PackageReference: SQA16A; Publisher: Altium Limited; PackageDescription: LLP, Plastic, Quad, 4 x 4 x 0.8mm Body, 16 Lead, 0.5mm Pitch, No Pullback; RoHS: N; PinCount: 16; ComponentLink1Description: LM3502 Datasheet; ComponentLink1URL: http://www.national.com/ds/LM/LM3502.pdf; ComponentLink2Description: LM3502 Web Page; ComponentLink2URL: http://www.national.com/pf/LM/LM3502.html; ComponentLink3Description: SQA16A Package Page; ComponentLink3URL: http://www.national.com/packaging/folders/sqa16a.html
footprint SQA16A (QFN, 16-Leads, Body 4x4mm, Pitch 0.5mm, NSC Recommended)
pins: 1 NC, 2 SW (power), 3 SW (power), 4 VOUT1 (out), 5 NC, 6 VOUT2 (out), 7 FB (in), 8 NC, 9 CNTRL (in), 10 EN1 (in), 11 NC, 12 EN2, 13 VIN (power), 14 AGND (power), 15 PGND (power), 16 PGND (power), 17 DAP (power)

## LM3502SQX-35/NOPB
designator U?
Step-Up Converter for White LED Applications, 16-pin LLP, Pb-Free; PartNumber: LM3502SQX-35/NOPB; Manufacturer: National Semiconductor; PackageTopMarking: NS*UZXYTT*L00044B; PowerWise: Y; CompType: MiscPower; Published: 1-Mar-2010; DatasheetVersion: Aug-2006; PackageVersion: revA, Oct-2003; PackageReference: SQA16A; Publisher: Altium Limited; PackageDescription: LLP, Plastic, Quad, 4 x 4 x 0.8mm Body, 16 Lead, 0.5mm Pitch, No Pullback; Supplier 1: Digi-Key; Supplier Part Number 1: LM3502SQX-35-ND; RoHS: Y; PinCount: 16; ComponentLink1Description: LM3502 Datasheet; ComponentLink1URL: http://www.national.com/ds/LM/LM3502.pdf; ComponentLink2Description: LM3502 Web Page; ComponentLink2URL: http://www.national.com/pf/LM/LM3502.html; ComponentLink3Description: SQA16A Package Page; ComponentLink3URL: http://www.national.com/packaging/folders/sqa16a.html
footprint SQA16A (QFN, 16-Leads, Body 4x4mm, Pitch 0.5mm, NSC Recommended)
pins: 1 NC, 2 SW (power), 3 SW (power), 4 VOUT1 (out), 5 NC, 6 VOUT2 (out), 7 FB (in), 8 NC, 9 CNTRL (in), 10 EN1 (in), 11 NC, 12 EN2, 13 VIN (power), 14 AGND (power), 15 PGND (power), 16 PGND (power), 17 DAP (power)

## LM3502SQX-44
designator U?
Step-Up Converter for White LED Applications, 16-pin LLP; PartNumber: LM3502SQX-44; Manufacturer: National Semiconductor; PackageTopMarking: NS*UZXYTT*L00050B; PowerWise: Y; CompType: MiscPower; Published: 1-Mar-2010; DatasheetVersion: Aug-2006; PackageVersion: revA, Oct-2003; PackageReference: SQA16A; Publisher: Altium Limited; PackageDescription: LLP, Plastic, Quad, 4 x 4 x 0.8mm Body, 16 Lead, 0.5mm Pitch, No Pullback; RoHS: N; PinCount: 16; ComponentLink1Description: LM3502 Datasheet; ComponentLink1URL: http://www.national.com/ds/LM/LM3502.pdf; ComponentLink2Description: LM3502 Web Page; ComponentLink2URL: http://www.national.com/pf/LM/LM3502.html; ComponentLink3Description: SQA16A Package Page; ComponentLink3URL: http://www.national.com/packaging/folders/sqa16a.html
footprint SQA16A (QFN, 16-Leads, Body 4x4mm, Pitch 0.5mm, NSC Recommended)
pins: 1 NC, 2 SW (power), 3 SW (power), 4 VOUT1 (out), 5 NC, 6 VOUT2 (out), 7 FB (in), 8 NC, 9 CNTRL (in), 10 EN1 (in), 11 NC, 12 EN2, 13 VIN (power), 14 AGND (power), 15 PGND (power), 16 PGND (power), 17 DAP (power)

## LM3502SQX-44/NOPB
designator U?
Step-Up Converter for White LED Applications, 16-pin LLP, Pb-Free; PartNumber: LM3502SQX-44/NOPB; Manufacturer: National Semiconductor; PackageTopMarking: NS*UZXYTT*L00050B; PowerWise: Y; CompType: MiscPower; Published: 1-Mar-2010; DatasheetVersion: Aug-2006; PackageVersion: revA, Oct-2003; PackageReference: SQA16A; Publisher: Altium Limited; PackageDescription: LLP, Plastic, Quad, 4 x 4 x 0.8mm Body, 16 Lead, 0.5mm Pitch, No Pullback; Supplier 1: Digi-Key; Supplier Part Number 1: LM3502SQX-44-ND; RoHS: Y; PinCount: 16; ComponentLink1Description: LM3502 Datasheet; ComponentLink1URL: http://www.national.com/ds/LM/LM3502.pdf; ComponentLink2Description: LM3502 Web Page; ComponentLink2URL: http://www.national.com/pf/LM/LM3502.html; ComponentLink3Description: SQA16A Package Page; ComponentLink3URL: http://www.national.com/packaging/folders/sqa16a.html
footprint SQA16A (QFN, 16-Leads, Body 4x4mm, Pitch 0.5mm, NSC Recommended)
pins: 1 NC, 2 SW (power), 3 SW (power), 4 VOUT1 (out), 5 NC, 6 VOUT2 (out), 7 FB (in), 8 NC, 9 CNTRL (in), 10 EN1 (in), 11 NC, 12 EN2, 13 VIN (power), 14 AGND (power), 15 PGND (power), 16 PGND (power), 17 DAP (power)

## LM3503ITL-16/NOPB
designator U?
Dual-Display Constant Current LED Driver with Analog Brightness Control, 10-pin Micro SMD, Pb-Free; PartNumber: LM3503ITL-16/NOPB; Manufacturer: National Semiconductor; PackageTopMarking: XYTT*I SBHB; PowerWise: Y; CompType: MiscPower; Published: 1-Mar-2010; DatasheetVersion: Aug-2006; PackageVersion: revD, Mar-2004; PackageReference: TLP10RDA; Publisher: Altium Limited; PackageDescription: Thin Micro SMD, 10 Bump (Large), Periperal, 0.5mm Pitch; Supplier 1: Digi-Key; Supplier Part Number 1: LM3503ITL-16TR-ND; Supplier 2: Digi-Key; Supplier Part Number 2: LM3503ITL-16CT-ND; Supplier 3: Digi-Key; Supplier Part Number 3: LM3503ITL-16DKR-ND; RoHS: Y; PinCount: 10; Code_JEDEC: MO-211-BD; ComponentLink1Description: LM3503 Datasheet; ComponentLink1URL: http://www.national.com/ds/LM/LM3503.pdf; ComponentLink2Description: LM3503 Web Page; ComponentLink2URL: http://www.national.com/pf/LM/LM3503.html; ComponentLink3Description: TLP10RDA Package Page; ComponentLink3URL: http://www.national.com/packaging/folders/tlp10rda.html
footprint TLP10RDA (Micro SMD, 10-Leads, Body 2.07x1.9mm, Pitch 0.5mm, NSC Recommended)
pins: A1 CNTRL (in), A2 EN1 (in), A3 EN2, B1 FB (in), B3 VIN (power), C1 VOUT2 (out), C3 AGND (power), D1 VOUT1 (out), D2 SW (power), D3 PGND (power)

## LM3503ITL-25/NOPB
designator U?
Dual-Display Constant Current LED Driver with Analog Brightness Control, 10-pin Micro SMD, Pb-Free; PartNumber: LM3503ITL-25/NOPB; Manufacturer: National Semiconductor; PackageTopMarking: XYTT*I SBJB; PowerWise: Y; CompType: MiscPower; Published: 1-Mar-2010; DatasheetVersion: Aug-2006; PackageVersion: revD, Mar-2004; PackageReference: TLP10RDA; Publisher: Altium Limited; PackageDescription: Thin Micro SMD, 10 Bump (Large), Periperal, 0.5mm Pitch; Supplier 1: Digi-Key; Supplier Part Number 1: LM3503ITL-25TR-ND; Supplier 2: Digi-Key; Supplier Part Number 2: LM3503ITL-25CT-ND; Supplier 3: Digi-Key; Supplier Part Number 3: LM3503ITL-25DKR-ND; RoHS: Y; PinCount: 10; Code_JEDEC: MO-211-BD; ComponentLink1Description: LM3503 Datasheet; ComponentLink1URL: http://www.national.com/ds/LM/LM3503.pdf; ComponentLink2Description: LM3503 Web Page; ComponentLink2URL: http://www.national.com/pf/LM/LM3503.html; ComponentLink3Description: TLP10RDA Package Page; ComponentLink3URL: http://www.national.com/packaging/folders/tlp10rda.html
footprint TLP10RDA (Micro SMD, 10-Leads, Body 2.07x1.9mm, Pitch 0.5mm, NSC Recommended)
pins: A1 CNTRL (in), A2 EN1 (in), A3 EN2, B1 FB (in), B3 VIN (power), C1 VOUT2 (out), C3 AGND (power), D1 VOUT1 (out), D2 SW (power), D3 PGND (power)

## LM3503ITL-35/NOPB
designator U?
Dual-Display Constant Current LED Driver with Analog Brightness Control, 10-pin Micro SMD, Pb-Free; PartNumber: LM3503ITL-35/NOPB; Manufacturer: National Semiconductor; PackageTopMarking: XYTT*I SBKB; PowerWise: Y; CompType: MiscPower; Published: 1-Mar-2010; DatasheetVersion: Aug-2006; PackageVersion: revD, Mar-2004; PackageReference: TLP10RDA; Publisher: Altium Limited; PackageDescription: Thin Micro SMD, 10 Bump (Large), Periperal, 0.5mm Pitch; Supplier 1: Digi-Key; Supplier Part Number 1: LM3503ITL-35TR-ND; Supplier 2: Digi-Key; Supplier Part Number 2: LM3503ITL-35CT-ND; Supplier 3: Digi-Key; Supplier Part Number 3: LM3503ITL-35DKR-ND; RoHS: Y; PinCount: 10; Code_JEDEC: MO-211-BD; ComponentLink1Description: LM3503 Datasheet; ComponentLink1URL: http://www.national.com/ds/LM/LM3503.pdf; ComponentLink2Description: LM3503 Web Page; ComponentLink2URL: http://www.national.com/pf/LM/LM3503.html; ComponentLink3Description: TLP10RDA Package Page; ComponentLink3URL: http://www.national.com/packaging/folders/tlp10rda.html
footprint TLP10RDA (Micro SMD, 10-Leads, Body 2.07x1.9mm, Pitch 0.5mm, NSC Recommended)
pins: A1 CNTRL (in), A2 EN1 (in), A3 EN2, B1 FB (in), B3 VIN (power), C1 VOUT2 (out), C3 AGND (power), D1 VOUT1 (out), D2 SW (power), D3 PGND (power)

## LM3503ITL-44/NOPB
designator U?
Dual-Display Constant Current LED Driver with Analog Brightness Control, 10-pin Micro SMD, Pb-Free; PartNumber: LM3503ITL-44/NOPB; Manufacturer: National Semiconductor; PackageTopMarking: XYTT*I SDNB; PowerWise: Y; CompType: MiscPower; Published: 1-Mar-2010; DatasheetVersion: Aug-2006; PackageVersion: revD, Mar-2004; PackageReference: TLP10RDA; Publisher: Altium Limited; PackageDescription: Thin Micro SMD, 10 Bump (Large), Periperal, 0.5mm Pitch; RoHS: Y; PinCount: 10; Code_JEDEC: MO-211-BD; ComponentLink1Description: LM3503 Datasheet; ComponentLink1URL: http://www.national.com/ds/LM/LM3503.pdf; ComponentLink2Description: LM3503 Web Page; ComponentLink2URL: http://www.national.com/pf/LM/LM3503.html; ComponentLink3Description: TLP10RDA Package Page; ComponentLink3URL: http://www.national.com/packaging/folders/tlp10rda.html
footprint TLP10RDA (Micro SMD, 10-Leads, Body 2.07x1.9mm, Pitch 0.5mm, NSC Recommended)
pins: A1 CNTRL (in), A2 EN1 (in), A3 EN2, B1 FB (in), B3 VIN (power), C1 VOUT2 (out), C3 AGND (power), D1 VOUT1 (out), D2 SW (power), D3 PGND (power)

## LM3503ITLX-16/NOPB
designator U?
Dual-Display Constant Current LED Driver with Analog Brightness Control, 10-pin Micro SMD, Pb-Free; PartNumber: LM3503ITLX-16/NOPB; Manufacturer: National Semiconductor; PackageTopMarking: XYTT*I SBHB; PowerWise: Y; CompType: MiscPower; Published: 1-Mar-2010; DatasheetVersion: Aug-2006; PackageVersion: revD, Mar-2004; PackageReference: TLP10RDA; Publisher: Altium Limited; PackageDescription: Thin Micro SMD, 10 Bump (Large), Periperal, 0.5mm Pitch; Supplier 1: Digi-Key; Supplier Part Number 1: LM3503ITLX-16-ND; RoHS: Y; PinCount: 10; Code_JEDEC: MO-211-BD; ComponentLink1Description: LM3503 Datasheet; ComponentLink1URL: http://www.national.com/ds/LM/LM3503.pdf; ComponentLink2Description: LM3503 Web Page; ComponentLink2URL: http://www.national.com/pf/LM/LM3503.html; ComponentLink3Description: TLP10RDA Package Page; ComponentLink3URL: http://www.national.com/packaging/folders/tlp10rda.html
footprint TLP10RDA (Micro SMD, 10-Leads, Body 2.07x1.9mm, Pitch 0.5mm, NSC Recommended)
pins: A1 CNTRL (in), A2 EN1 (in), A3 EN2, B1 FB (in), B3 VIN (power), C1 VOUT2 (out), C3 AGND (power), D1 VOUT1 (out), D2 SW (power), D3 PGND (power)

## LM3503ITLX-25/NOPB
designator U?
Dual-Display Constant Current LED Driver with Analog Brightness Control, 10-pin Micro SMD, Pb-Free; PartNumber: LM3503ITLX-25/NOPB; Manufacturer: National Semiconductor; PackageTopMarking: XYTT*I SBJB; PowerWise: Y; CompType: MiscPower; Published: 1-Mar-2010; DatasheetVersion: Aug-2006; PackageVersion: revD, Mar-2004; PackageReference: TLP10RDA; Publisher: Altium Limited; PackageDescription: Thin Micro SMD, 10 Bump (Large), Periperal, 0.5mm Pitch; Supplier 1: Digi-Key; Supplier Part Number 1: LM3503ITLX-25-ND; RoHS: Y; PinCount: 10; Code_JEDEC: MO-211-BD; ComponentLink1Description: LM3503 Datasheet; ComponentLink1URL: http://www.national.com/ds/LM/LM3503.pdf; ComponentLink2Description: LM3503 Web Page; ComponentLink2URL: http://www.national.com/pf/LM/LM3503.html; ComponentLink3Description: TLP10RDA Package Page; ComponentLink3URL: http://www.national.com/packaging/folders/tlp10rda.html
footprint TLP10RDA (Micro SMD, 10-Leads, Body 2.07x1.9mm, Pitch 0.5mm, NSC Recommended)
pins: A1 CNTRL (in), A2 EN1 (in), A3 EN2, B1 FB (in), B3 VIN (power), C1 VOUT2 (out), C3 AGND (power), D1 VOUT1 (out), D2 SW (power), D3 PGND (power)

## LM3503ITLX-35/NOPB
designator U?
Dual-Display Constant Current LED Driver with Analog Brightness Control, 10-pin Micro SMD, Pb-Free; PartNumber: LM3503ITLX-35/NOPB; Manufacturer: National Semiconductor; PackageTopMarking: XYTT*I SBKB; PowerWise: Y; CompType: MiscPower; Published: 1-Mar-2010; DatasheetVersion: Aug-2006; PackageVersion: revD, Mar-2004; PackageReference: TLP10RDA; Publisher: Altium Limited; PackageDescription: Thin Micro SMD, 10 Bump (Large), Periperal, 0.5mm Pitch; Supplier 1: Digi-Key; Supplier Part Number 1: LM3503ITLX-35-ND; RoHS: Y; PinCount: 10; Code_JEDEC: MO-211-BD; ComponentLink1Description: LM3503 Datasheet; ComponentLink1URL: http://www.national.com/ds/LM/LM3503.pdf; ComponentLink2Description: LM3503 Web Page; ComponentLink2URL: http://www.national.com/pf/LM/LM3503.html; ComponentLink3Description: TLP10RDA Package Page; ComponentLink3URL: http://www.national.com/packaging/folders/tlp10rda.html
footprint TLP10RDA (Micro SMD, 10-Leads, Body 2.07x1.9mm, Pitch 0.5mm, NSC Recommended)
pins: A1 CNTRL (in), A2 EN1 (in), A3 EN2, B1 FB (in), B3 VIN (power), C1 VOUT2 (out), C3 AGND (power), D1 VOUT1 (out), D2 SW (power), D3 PGND (power)

## LM3503ITLX-44/NOPB
designator U?
Dual-Display Constant Current LED Driver with Analog Brightness Control, 10-pin Micro SMD, Pb-Free; PartNumber: LM3503ITLX-44/NOPB; Manufacturer: National Semiconductor; PackageTopMarking: XYTT*I SDNB; PowerWise: Y; CompType: MiscPower; Published: 1-Mar-2010; DatasheetVersion: Aug-2006; PackageVersion: revD, Mar-2004; PackageReference: TLP10RDA; Publisher: Altium Limited; PackageDescription: Thin Micro SMD, 10 Bump (Large), Periperal, 0.5mm Pitch; Supplier 1: Digi-Key; Supplier Part Number 1: LM3503ITLX-44-ND; RoHS: Y; PinCount: 10; Code_JEDEC: MO-211-BD; ComponentLink1Description: LM3503 Datasheet; ComponentLink1URL: http://www.national.com/ds/LM/LM3503.pdf; ComponentLink2Description: LM3503 Web Page; ComponentLink2URL: http://www.national.com/pf/LM/LM3503.html; ComponentLink3Description: TLP10RDA Package Page; ComponentLink3URL: http://www.national.com/packaging/folders/tlp10rda.html
footprint TLP10RDA (Micro SMD, 10-Leads, Body 2.07x1.9mm, Pitch 0.5mm, NSC Recommended)
pins: A1 CNTRL (in), A2 EN1 (in), A3 EN2, B1 FB (in), B3 VIN (power), C1 VOUT2 (out), C3 AGND (power), D1 VOUT1 (out), D2 SW (power), D3 PGND (power)

## LM3503SQ-16
designator U?
Dual-Display Constant Current LED Driver with Analog Brightness Control, 16-pin LLP; PartNumber: LM3503SQ-16; Manufacturer: National Semiconductor; PackageTopMarking: NS*UZXYTT*L00045B; PowerWise: Y; CompType: MiscPower; Published: 4-Dec-2008; DatasheetVersion: Aug-2006; PackageVersion: revA, Oct-2003; PackageReference: SQA16A; Publisher: Altium Limited; PackageDescription: LLP, Plastic, Quad, 4 x 4 x 0.8mm Body, 16 Lead, 0.5mm Pitch, No Pullback; Supplier 1: Farnell; Supplier Part Number 1: 1312576; RoHS: N; PinCount: 16; ComponentLink1Description: LM3503 Datasheet; ComponentLink1URL: http://www.national.com/ds/LM/LM3503.pdf; ComponentLink2Description: LM3503 Web Page; ComponentLink2URL: http://www.national.com/pf/LM/LM3503.html; ComponentLink3Description: SQA16A Package Page; ComponentLink3URL: http://www.national.com/packaging/folders/sqa16a.html
footprint SQA16A (QFN, 16-Leads, Body 4x4mm, Pitch 0.5mm, NSC Recommended)
pins: 1 NC, 2 SW (power), 3 SW (power), 4 VOUT1 (out), 5 NC, 6 VOUT2 (out), 7 FB (in), 8 NC, 9 CNTRL (in), 10 EN1 (in), 11 NC, 12 EN2, 13 VIN (power), 14 AGND (power), 15 PGND (power), 16 PGND (power), 17 DAP (power)

## LM3503SQ-16/NOPB
designator U?
Dual-Display Constant Current LED Driver with Analog Brightness Control, 16-pin LLP, Pb-Free; PartNumber: LM3503SQ-16/NOPB; Manufacturer: National Semiconductor; PackageTopMarking: NS*UZXYTT*L00045B; PowerWise: Y; CompType: MiscPower; Published: 1-Mar-2010; DatasheetVersion: Aug-2006; PackageVersion: revA, Oct-2003; PackageReference: SQA16A; Publisher: Altium Limited; PackageDescription: LLP, Plastic, Quad, 4 x 4 x 0.8mm Body, 16 Lead, 0.5mm Pitch, No Pullback; Supplier 1: Digi-Key; Supplier Part Number 1: LM3503SQ-16TR-ND; Supplier 2: Digi-Key; Supplier Part Number 2: LM3503SQ-16CT-ND; Supplier 3: Digi-Key; Supplier Part Number 3: LM3503SQ-16DKR-ND; RoHS: Y; PinCount: 16; ComponentLink1Description: LM3503 Datasheet; ComponentLink1URL: http://www.national.com/ds/LM/LM3503.pdf; ComponentLink2Description: LM3503 Web Page; ComponentLink2URL: http://www.national.com/pf/LM/LM3503.html; ComponentLink3Description: SQA16A Package Page; ComponentLink3URL: http://www.national.com/packaging/folders/sqa16a.html
footprint SQA16A (QFN, 16-Leads, Body 4x4mm, Pitch 0.5mm, NSC Recommended)
pins: 1 NC, 2 SW (power), 3 SW (power), 4 VOUT1 (out), 5 NC, 6 VOUT2 (out), 7 FB (in), 8 NC, 9 CNTRL (in), 10 EN1 (in), 11 NC, 12 EN2, 13 VIN (power), 14 AGND (power), 15 PGND (power), 16 PGND (power), 17 DAP (power)

## LM3503SQ-25
designator U?
Dual-Display Constant Current LED Driver with Analog Brightness Control, 16-pin LLP; PartNumber: LM3503SQ-25; Manufacturer: National Semiconductor; PackageTopMarking: NS*UZXYTT*L00046B; PowerWise: Y; CompType: MiscPower; Published: 4-Dec-2008; DatasheetVersion: Aug-2006; PackageVersion: revA, Oct-2003; PackageReference: SQA16A; Publisher: Altium Limited; PackageDescription: LLP, Plastic, Quad, 4 x 4 x 0.8mm Body, 16 Lead, 0.5mm Pitch, No Pullback; Supplier 1: Digi-Key; Supplier Part Number 1: LM3503SQ-25TR-ND; Supplier 2: Digi-Key; Supplier Part Number 2: LM3503SQ-25CT-ND; Supplier 3: Digi-Key; Supplier Part Number 3: LM3503SQ-25DKR-ND; Supplier 4: Farnell; Supplier Part Number 4: 1312577; RoHS: N; PinCount: 16; ComponentLink1Description: LM3503 Datasheet; ComponentLink1URL: http://www.national.com/ds/LM/LM3503.pdf; ComponentLink2Description: LM3503 Web Page; ComponentLink2URL: http://www.national.com/pf/LM/LM3503.html; ComponentLink3Description: SQA16A Package Page; ComponentLink3URL: http://www.national.com/packaging/folders/sqa16a.html
footprint SQA16A (QFN, 16-Leads, Body 4x4mm, Pitch 0.5mm, NSC Recommended)
pins: 1 NC, 2 SW (power), 3 SW (power), 4 VOUT1 (out), 5 NC, 6 VOUT2 (out), 7 FB (in), 8 NC, 9 CNTRL (in), 10 EN1 (in), 11 NC, 12 EN2, 13 VIN (power), 14 AGND (power), 15 PGND (power), 16 PGND (power), 17 DAP (power)

## LM3503SQ-25/NOPB
designator U?
Dual-Display Constant Current LED Driver with Analog Brightness Control, 16-pin LLP, Pb-Free; PartNumber: LM3503SQ-25/NOPB; Manufacturer: National Semiconductor; PackageTopMarking: NS*UZXYTT*L00046B; PowerWise: Y; CompType: MiscPower; Published: 1-Mar-2010; DatasheetVersion: Aug-2006; PackageVersion: revA, Oct-2003; PackageReference: SQA16A; Publisher: Altium Limited; PackageDescription: LLP, Plastic, Quad, 4 x 4 x 0.8mm Body, 16 Lead, 0.5mm Pitch, No Pullback; RoHS: Y; PinCount: 16; ComponentLink1Description: LM3503 Datasheet; ComponentLink1URL: http://www.national.com/ds/LM/LM3503.pdf; ComponentLink2Description: LM3503 Web Page; ComponentLink2URL: http://www.national.com/pf/LM/LM3503.html; ComponentLink3Description: SQA16A Package Page; ComponentLink3URL: http://www.national.com/packaging/folders/sqa16a.html
footprint SQA16A (QFN, 16-Leads, Body 4x4mm, Pitch 0.5mm, NSC Recommended)
pins: 1 NC, 2 SW (power), 3 SW (power), 4 VOUT1 (out), 5 NC, 6 VOUT2 (out), 7 FB (in), 8 NC, 9 CNTRL (in), 10 EN1 (in), 11 NC, 12 EN2, 13 VIN (power), 14 AGND (power), 15 PGND (power), 16 PGND (power), 17 DAP (power)

## LM3503SQ-35
designator U?
Dual-Display Constant Current LED Driver with Analog Brightness Control, 16-pin LLP; PartNumber: LM3503SQ-35; Manufacturer: National Semiconductor; PackageTopMarking: NS*UZXYTT*L00047B; PowerWise: Y; CompType: MiscPower; Published: 4-Dec-2008; DatasheetVersion: Aug-2006; PackageVersion: revA, Oct-2003; PackageReference: SQA16A; Publisher: Altium Limited; PackageDescription: LLP, Plastic, Quad, 4 x 4 x 0.8mm Body, 16 Lead, 0.5mm Pitch, No Pullback; Supplier 1: Farnell; Supplier Part Number 1: 1312578; RoHS: N; PinCount: 16; ComponentLink1Description: LM3503 Datasheet; ComponentLink1URL: http://www.national.com/ds/LM/LM3503.pdf; ComponentLink2Description: LM3503 Web Page; ComponentLink2URL: http://www.national.com/pf/LM/LM3503.html; ComponentLink3Description: SQA16A Package Page; ComponentLink3URL: http://www.national.com/packaging/folders/sqa16a.html
footprint SQA16A (QFN, 16-Leads, Body 4x4mm, Pitch 0.5mm, NSC Recommended)
pins: 1 NC, 2 SW (power), 3 SW (power), 4 VOUT1 (out), 5 NC, 6 VOUT2 (out), 7 FB (in), 8 NC, 9 CNTRL (in), 10 EN1 (in), 11 NC, 12 EN2, 13 VIN (power), 14 AGND (power), 15 PGND (power), 16 PGND (power), 17 DAP (power)